# EAGLE library part BANANAPRO-CON6 (library mouser)
Mouser 571-7-534206-0
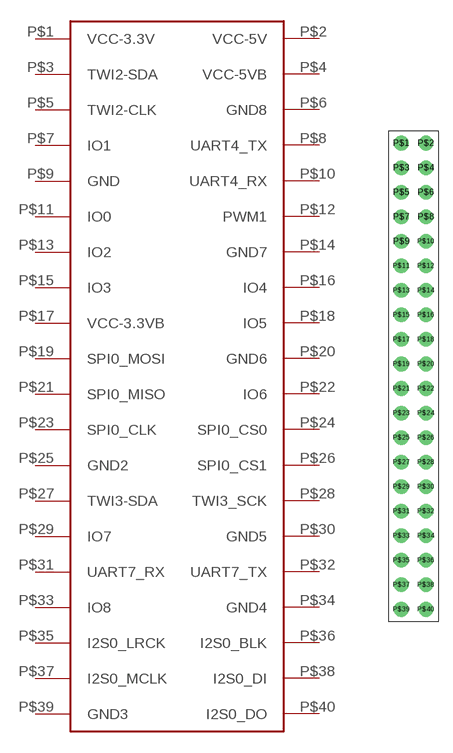
[diagram p3: symbol with the pads of BANANAPRO-CON6_DIM; footprint BANANAPRO-CON6_DIM]

Designator prefix -

## BANANAPRO-CON6  [BANANAPRO-CON6_DIM]
P$1  VCC-3.3V
P$2  VCC-5V
P$3  TWI2-SDA
P$4  VCC-5VB
P$5  TWI2-CLK
P$6  GND8
P$7  IO1
P$8  UART4_TX
P$9  GND
P$10  UART4_RX
P$11  IO0
P$12  PWM1
P$13  IO2
P$14  GND7
P$15  IO3
P$16  IO4
P$17  VCC-3.3VB
P$18  IO5
P$19  SPI0_MOSI
P$20  GND6
P$21  SPI0_MISO
P$22  IO6
P$23  SPI0_CLK
P$24  SPI0_CS0
P$25  GND2
P$26  SPI0_CS1
P$27  TWI3-SDA
P$28  TWI3_SCK
P$29  IO7
P$30  GND5
P$31  UART7_RX
P$32  UART7_TX
P$33  IO8
P$34  GND4
P$35  I2S0_LRCK
P$36  I2S0_BLK
P$37  I2S0_MCLK
P$38  I2S0_DI
P$39  GND3
P$40  I2S0_DO

## Footprint BANANAPRO-CON6_DIM (pad centres in mm)
drill 1: P$1 -1.27,10.16; P$2 1.27,10.16; P$3 -1.27,7.62; P$4 1.27,7.62; P$5 -1.27,5.08; P$6 1.27,5.08; P$7 -1.27,2.54; P$8 1.27,2.54; P$9 -1.27,0; P$10 1.27,0; P$11 -1.27,-2.54; P$12 1.27,-2.54; P$13 -1.27,-5.08; P$14 1.27,-5.08; P$15 -1.27,-7.62; P$16 1.27,-7.62; P$17 -1.27,-10.16; P$18 1.27,-10.16; P$19 -1.27,-12.7; P$20 1.27,-12.7; P$21 -1.27,-15.24; P$22 1.27,-15.24; P$23 -1.27,-17.78; P$24 1.27,-17.78; P$25 -1.27,-20.32; P$26 1.27,-20.32; P$27 -1.27,-22.86; P$28 1.27,-22.86; P$29 -1.27,-25.4; P$30 1.27,-25.4; P$31 -1.27,-27.94; P$32 1.27,-27.94; P$33 -1.27,-30.48; P$34 1.27,-30.48; P$35 -1.27,-33.02; P$36 1.27,-33.02; P$37 -1.27,-35.56; P$38 1.27,-35.56; P$39 -1.27,-38.1; P$40 1.27,-38.1